# EAGLE library part TMP122 (library custom)
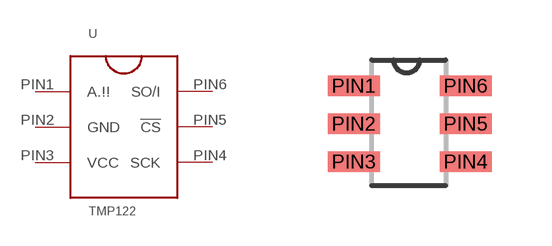
[diagram p2: symbol with the pads of SOT23-6; footprint SOT23-6]

Designator prefix -

## TMP122  [SOT23-6]
PIN1  A.!!  out
PIN2  GND  pwr
PIN3  VCC  pwr
PIN4  SCK  in
PIN5  !CS  in
PIN6  SO/I

## Footprint SOT23-6 (pad centres in mm)
smd 1.3 x 0.508: PIN1 -0.2,0; PIN2 -0.2,-0.95; PIN3 -0.2,-1.9; PIN4 2.6,-1.9; PIN5 2.6,-0.95; PIN6 2.6,0